# Altium schematic symbol library SCH - MISC - DESIGN_INFO.SCHLIB: 1 symbol
Pins are listed as number, name and electrical type; pins without a type are passive.

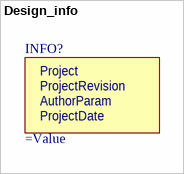
[diagram p0: symbol Design_info]

## Design_info
designator INFO?  (no BOM)
Design information on PCB
text: Project; ProjectRevision; AuthorParam; ProjectDate